# EAGLE library part FLASH_256KX8_SST39SF020A-70 (library 07-Retrocomputing)
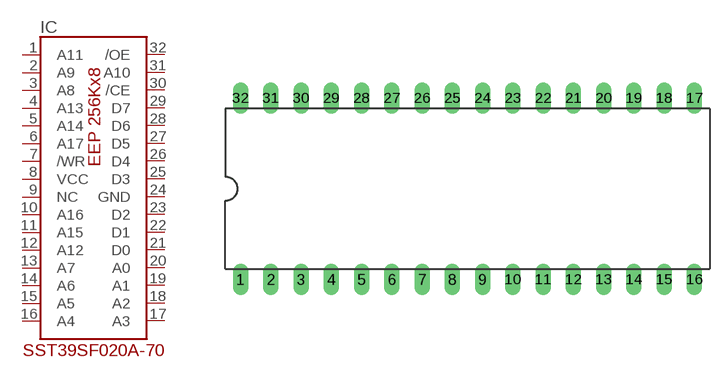
[diagram p4: symbol with the pads of DIL32; footprint DIL32]

Designator prefix IC

## FLASH_256KX8_SST39SF020A-70  [DIL32]
1  A11
2  A9
3  A8
4  A13
5  A14
6  A17
7  /WR
8  VCC
9  NC
10  A16
11  A15
12  A12
13  A7
14  A6
15  A5
16  A4
17  A3
18  A2
19  A1
20  A0
21  D0
22  D1
23  D2
24  GND
25  D3
26  D4
27  D5
28  D6
29  D7
30  /CE
31  A10
32  /OE

## Footprint DIL32 (pad centres in mm)
Dual In Line Package
drill 0.813 long: 1 -19.05,-7.62; 2 -16.51,-7.62; 3 -13.97,-7.62; 4 -11.43,-7.62; 5 -8.89,-7.62; 6 -6.35,-7.62; 7 -3.81,-7.62; 8 -1.27,-7.62; 9 1.27,-7.62; 10 3.81,-7.62; 11 6.35,-7.62; 12 8.89,-7.62; 13 11.43,-7.62; 14 13.97,-7.62; 15 16.51,-7.62; 16 19.05,-7.62; 17 19.05,7.62; 18 16.51,7.62; 19 13.97,7.62; 20 11.43,7.62; 21 8.89,7.62; 22 6.35,7.62; 23 3.81,7.62; 24 1.27,7.62; 25 -1.27,7.62; 26 -3.81,7.62; 27 -6.35,7.62; 28 -8.89,7.62; 29 -11.43,7.62; 30 -13.97,7.62; 31 -16.51,7.62; 32 -19.05,7.62